# Altium footprint library United_Chemi_Con_Ceramic_Capacitor_Footprints.PcbLib: 1 footprints
Each footprint in its own frame and in the unit in brackets; x right, y up, seen from the top. Pads: shape width x height; smd on the part's side, far side on the other; paste and mask are expansions set on the pad; w line width, h text height; cw(c..) or ccw(c..) is an arc to the next point about the centre after c.
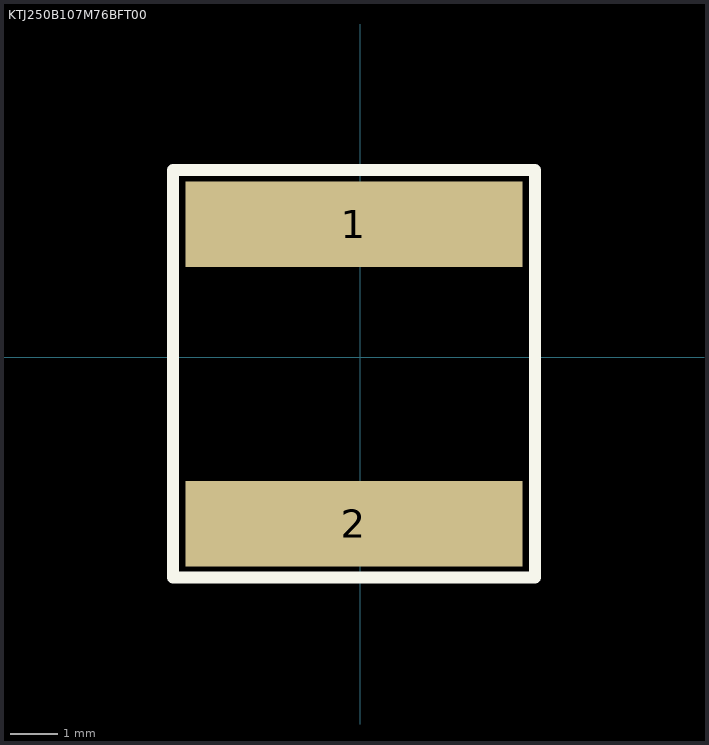
[diagram p0: the footprint, top view; thin cyan lines are the x and y axes]

## KTJ250B107M76BFT00 [mm] "100µF ±20% 25V Ceramic Capacitor X7R Stacked SMD, 2 J-Lead"
pads (2):
  rect 7.1x1.8 smd: 1(-0.127,2.794) 2(-0.127,-3.506)
Top Overlay:
  lines w0.254: 3.684,3.872 3.684,-4.637 -3.937,-4.637 -3.937,3.937 3.556,3.937 3.684,3.937